# Altium schematic symbol library ADG408.SchLib: 1 symbol
Pins are listed as number, name and electrical type; pins without a type are passive.

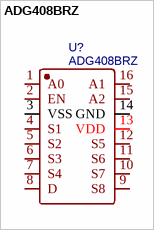
[diagram p0: symbol ADG408BRZ]

## ADG408BRZ
designator U?
LC2MOS, ±15 V, 8通道、高性能模拟多路复用器; Manufacturer: ADI(亚德诺); Contributor: LCSC; Supplier: LCSC; Supplier Part: C655310; Manufacturer Part: ADG408BRZ; JLCPCB Part Class: Extended Part; spicePre: U; spiceSymbolName: ADG408BRZ
footprint SOIC-16_L9.9-W3.9-P1.27-LS6.0-BL
pins: 1 A0, 2 EN, 3 VSS, 4 S1, 5 S2, 6 S3, 7 S4, 8 D, 9 S8, 10 S7, 11 S6, 12 S5, 13 VDD, 14 GND, 15 A2, 16 A1